# Altium schematic symbol library V_5.SchLib: 4 symbols
Pins are listed as number, name and electrical type; pins without a type are passive.

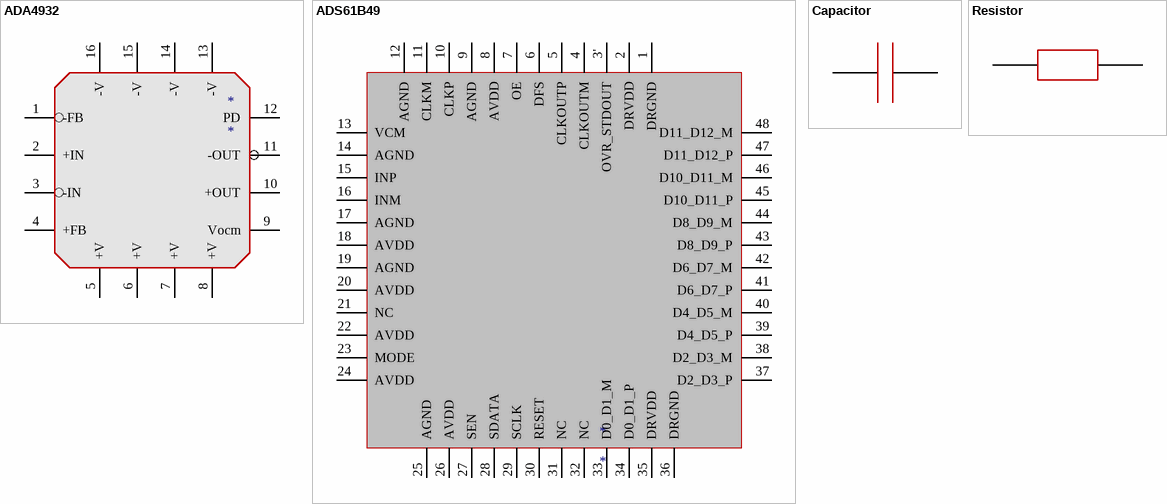
[diagram p0: symbols ADA4932 to Resistor]

## ADA4932
designator *
footprint ADA4932 (Footprint not found)
pins: 1 -FB, 2 +IN, 3 -IN, 4 +FB, 5 +V, 6 +V, 7 +V, 8 +V, 9 Vocm, 10 +OUT, 11 -OUT, 12 PD, 13 -V, 14 -V, 15 -V, 16 -V

## ADS61B49
designator *
footprint ADS61B49 (Footprint not found)
pins: 1 DRGND, 2 DRVDD, 3' OVR_STDOUT, 4 CLKOUTM, 5 CLKOUTP, 6 DFS, 7 OE, 8 AVDD, 9 AGND, 10 CLKP, 11 CLKM, 12 AGND, 13 VCM, 14 AGND, 15 INP, 16 INM, 17 AGND, 18 AVDD, 19 AGND, 20 AVDD, 21 NC, 22 AVDD, 23 MODE, 24 AVDD, 25 AGND, 26 AVDD, 27 SEN, 28 SDATA, 29 SCLK, 30 RESET, 31 NC, 32 NC, 33 D0_D1_M, 34 D0_D1_P, 35 DRVDD, 36 DRGND, 37 D2_D3_P, 38 D2_D3_M, 39 D4_D5_P, 40 D4_D5_M, 41 D6_D7_P, 42 D6_D7_M, 43 D8_D9_P, 44 D8_D9_M, 45 D10_D11_P, 46 D10_D11_M, 47 D11_D12_P, 48 D11_D12_M

## Capacitor
designator *  (value not drawn)
footprint Capacitor (Footprint not found)
pins: 2, 3

## Resistor
designator ?
footprint Resistor (Footprint not found)
pins: 0, 1